# Altium footprint library ICs.PcbLib: 52 footprints (part 4 of 4)
Each footprint in its own frame and in the unit in brackets; x right, y up, seen from the top. Pads: shape width x height; smd on the part's side, far side on the other; paste and mask are expansions set on the pad; w line width, h text height; cw(c..) or ccw(c..) is an arc to the next point about the centre after c.
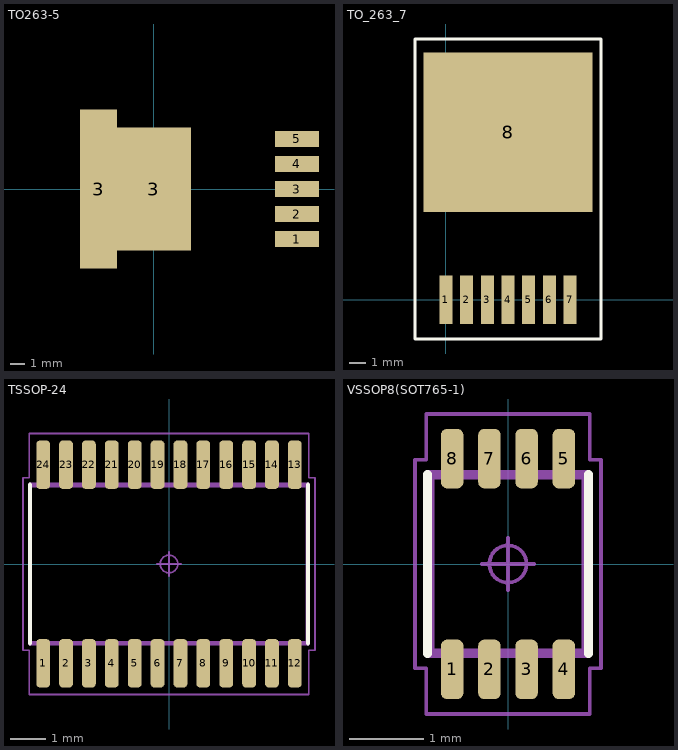
[diagram p3: the footprints below, top view; thin cyan lines are the x and y axes]

## TO263-5 [mm]
pads (7):
  rect 3x1.07 smd mask+0.1: 1(9.72,-3.4) 2(9.72,-1.7) 3(9.72,0) 4(9.72,1.7) 5(9.72,3.4)
  rect 2.5x10.8 smd mask+0.1: 3(-3.75,0)
  rect 5.08x8.33 smd mask+0.1: 3(0,0)
3D body "TO-263-5_TabPin3.step": height 4.42, standoff 0, extent -4.25,-5 10.75,5

## TO_263_7 [mm]
pads (8):
  rect 0.8x3 smd: 1(0,0) 2(1.27,0) 3(2.54,0) 4(3.81,0) 5(5.08,0) 6(6.35,0) 7(7.62,0)
  rect 10.4x9.8 smd: 8(3.81,10.287)
Top Overlay:
  lines w0.2: -1.905,-2.413 -1.905,16.002 9.525,16.002 9.525,-2.413 -1.905,-2.413
3D body "TO-263-7_TabPin8.step": height 4.42, standoff 0, extent -1.19,-0.9 8.81,14.1

## TSSOP-24 [mm] "Small Outline Pkg (SOP), 0.65 mm pitch; 24 pin, 7.80 mm L X 4.40 mm W X 1.10 mm H body"
height 1.1
pads (24):
  rrect51% 0.39x1.37 smd: 1(-3.575,-2.82) 2(-2.925,-2.82) 3(-2.275,-2.82) 4(-1.625,-2.82) 5(-0.975,-2.82) 6(-0.325,-2.82) 7(0.325,-2.82) 8(0.975,-2.82) 9(1.625,-2.82) 10(2.275,-2.82) 11(2.925,-2.82) 12(3.575,-2.82) 13(3.575,2.82) 14(2.925,2.82) 15(2.275,2.82) 16(1.625,2.82) 17(0.975,2.82) 18(0.325,2.82) 19(-0.325,2.82) 20(-0.975,2.82) 21(-1.625,2.82) 22(-2.275,2.82) 23(-2.925,2.82) 24(-3.575,2.82)
Top Overlay:
  lines w0.12: -3.95,-2.25 -3.95,2.25 ; 3.95,-2.25 3.95,2.25
Mechanical 11:
  lines w0.12: -3.95,-2.25 3.95,-2.25 3.95,2.25 -3.95,2.25 -3.95,-2.25
Mechanical 12:
  lines w0.025: -3.9,-2.2 3.9,-2.2 3.9,2.2 -3.9,2.2 -3.9,-2.2 ; -3.698,-3.2 -3.698,-2.575 -3.453,-2.575 -3.453,-3.2 -3.698,-3.2 ; -3.698,2.575 -3.698,3.2 -3.453,3.2 -3.453,2.575 -3.698,2.575 ; -3.047,-3.2 -3.047,-2.575 -2.802,-2.575 -2.802,-3.2 -3.047,-3.2 ; -3.047,2.575 -3.047,3.2 -2.802,3.2 -2.802,2.575 -3.047,2.575 ; -2.398,-3.2 -2.398,-2.575 -2.153,-2.575 -2.153,-3.2 -2.398,-3.2 ; -2.398,2.575 -2.398,3.2 -2.153,3.2 -2.153,2.575 -2.398,2.575 ; -1.747,-3.2 -1.747,-2.575 -1.502,-2.575 -1.502,-3.2 -1.747,-3.2 ; -1.747,2.575 -1.747,3.2 -1.502,3.2 -1.502,2.575 -1.747,2.575 ; -1.098,-3.2 -1.098,-2.575 -0.853,-2.575 -0.853,-3.2 -1.098,-3.2 ; -1.098,2.575 -1.098,3.2 -0.853,3.2 -0.853,2.575 -1.098,2.575 ; -0.447,-3.2 -0.447,-2.575 -0.202,-2.575 -0.202,-3.2 -0.447,-3.2 ; -0.447,2.575 -0.447,3.2 -0.202,3.2 -0.202,2.575 -0.447,2.575 ; 0.202,-3.2 0.202,-2.575 0.447,-2.575 0.447,-3.2 0.202,-3.2 ; 0.202,2.575 0.202,3.2 0.447,3.2 0.447,2.575 0.202,2.575 ; 0.853,-3.2 0.853,-2.575 1.098,-2.575 1.098,-3.2 0.853,-3.2 ; 0.853,2.575 0.853,3.2 1.098,3.2 1.098,2.575 0.853,2.575 ; 1.502,-3.2 1.502,-2.575 1.747,-2.575 1.747,-3.2 1.502,-3.2 ; 1.502,2.575 1.502,3.2 1.747,3.2 1.747,2.575 1.502,2.575 ; 2.153,-3.2 2.153,-2.575 2.398,-2.575 2.398,-3.2 2.153,-3.2 ; 2.153,2.575 2.153,3.2 2.398,3.2 2.398,2.575 2.153,2.575 ; 2.802,-3.2 2.802,-2.575 3.047,-2.575 3.047,-3.2 2.802,-3.2 ; 2.802,2.575 2.802,3.2 3.047,3.2 3.047,2.575 2.802,2.575 ; 3.453,-3.2 3.453,-2.575 3.698,-2.575 3.698,-3.2 3.453,-3.2 ; 3.453,2.575 3.453,3.2 3.698,3.2 3.698,2.575 3.453,2.575
Mechanical 15:
  circle w0.05: c0,0 r0.25
  lines w0.05: -0.35,0 0.35,0 ; 0,-0.35 0,0.35 ; -4.15,-2.45 -3.97,-2.45 -3.97,-3.705 3.97,-3.705 3.97,-2.45 4.15,-2.45 4.15,2.45 3.97,2.45 3.97,3.705 -3.97,3.705 -3.97,2.45 -4.15,2.45 -4.15,-2.45
Mechanical 16:
  text ".Designator" at 0,0 h1.2
3D body "SOP24P65_780X640X110L62X24.STEP": height 1.1, standoff 0, extent -3.9,-3.2 3.9,3.2

## VSSOP8(SOT765-1) [mm] "Small Outline Pkg (SOP), 0.50 mm pitch; 8 pin, 2.00 mm L X 2.30 mm W X 1.00 mm H body"
height 1
pads (8):
  rrect53% 0.3x0.8 smd: 1(-0.75,-1.415) 2(-0.25,-1.415) 3(0.25,-1.415) 4(0.75,-1.415) 5(0.75,1.415) 6(0.25,1.415) 7(-0.25,1.415) 8(-0.75,1.415)
Top Overlay:
  lines w0.12: -1.08,-1.2 -1.08,1.2 ; 1.08,-1.2 1.08,1.2
Mechanical 11:
  lines w0.12: -1.05,-1.2 1.05,-1.2 1.05,1.2 -1.05,1.2 -1.05,-1.2
Mechanical 12:
  lines w0.025: -1,-1.15 1,-1.15 1,1.15 -1,1.15 -1,-1.15 ; -0.86,-1.55 -0.86,-1.275 -0.64,-1.275 -0.64,-1.55 -0.86,-1.55 ; -0.86,1.275 -0.86,1.55 -0.64,1.55 -0.64,1.275 -0.86,1.275 ; -0.36,-1.55 -0.36,-1.275 -0.14,-1.275 -0.14,-1.55 -0.36,-1.55 ; -0.36,1.275 -0.36,1.55 -0.14,1.55 -0.14,1.275 -0.36,1.275 ; 0.14,-1.55 0.14,-1.275 0.36,-1.275 0.36,-1.55 0.14,-1.55 ; 0.14,1.275 0.14,1.55 0.36,1.55 0.36,1.275 0.14,1.275 ; 0.64,-1.55 0.64,-1.275 0.86,-1.275 0.86,-1.55 0.64,-1.55 ; 0.64,1.275 0.64,1.55 0.86,1.55 0.86,1.275 0.64,1.275
Mechanical 15:
  circle w0.05: c0,0 r0.25
  lines w0.05: -0.35,0 0.35,0 ; 0,-0.35 0,0.35 ; -1.25,-1.4 -1.1,-1.4 -1.1,-2.015 1.1,-2.015 1.1,-1.4 1.25,-1.4 1.25,1.4 1.1,1.4 1.1,2.015 -1.1,2.015 -1.1,1.4 -1.25,1.4 -1.25,-1.4
3D body "VSSOP8_SOT765-1.STEP": height 1, standoff 0, extent -1,-1.55 1,1.55